# EAGLE library part ESP32_DEVKIT_V1 (library bzd)
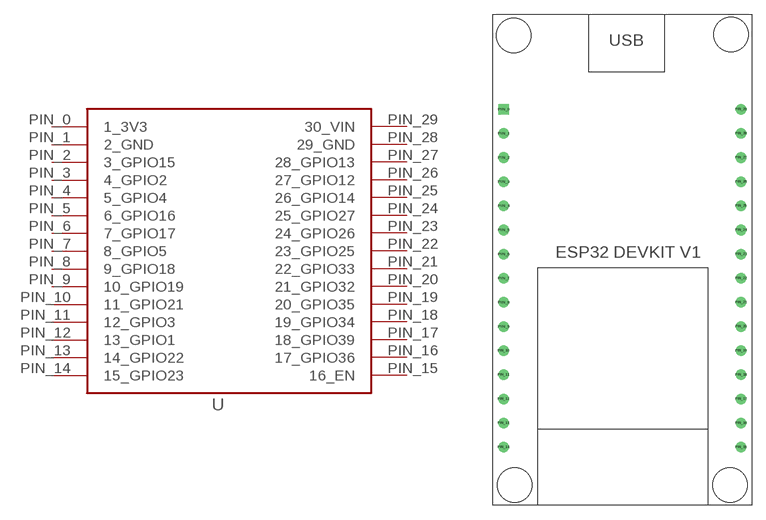
[diagram p2: symbol with the pads of ESP32_DEVKIT_V1; footprint ESP32_DEVKIT_V1]

Designator prefix -

## ESP32_DEVKIT_V1  [ESP32_DEVKIT_V1]
PIN_0  1_3V3
PIN_1  2_GND
PIN_2  3_GPIO15
PIN_3  4_GPIO2
PIN_4  5_GPIO4
PIN_5  6_GPIO16
PIN_6  7_GPIO17
PIN_7  8_GPIO5
PIN_8  9_GPIO18
PIN_9  10_GPIO19
PIN_10  11_GPIO21
PIN_11  12_GPIO3
PIN_12  13_GPIO1
PIN_13  14_GPIO22
PIN_14  15_GPIO23
PIN_15  16_EN
PIN_16  17_GPIO36
PIN_17  18_GPIO39
PIN_18  19_GPIO34
PIN_19  20_GPIO35
PIN_20  21_GPIO32
PIN_21  22_GPIO33
PIN_22  23_GPIO25
PIN_23  24_GPIO26
PIN_24  25_GPIO27
PIN_25  26_GPIO14
PIN_26  27_GPIO12
PIN_27  28_GPIO13
PIN_28  29_GND
PIN_29  30_VIN

## Footprint ESP32_DEVKIT_V1 (pad centres in mm)
drill 0.6 square: PIN_0 -12.954,17.526
drill 0.6: PIN_1 -12.954,14.986; PIN_2 -12.954,12.446; PIN_3 -12.954,9.906; PIN_4 -12.954,7.366; PIN_5 -12.954,4.826; PIN_6 -12.954,2.286; PIN_7 -12.954,-0.254; PIN_8 -12.954,-2.794; PIN_9 -12.954,-5.334; PIN_10 -12.954,-7.874; PIN_11 -12.954,-10.414; PIN_12 -12.954,-12.954; PIN_13 -12.954,-15.494; PIN_14 -12.954,-18.034; PIN_15 12.046,-18.034; PIN_16 12.046,-15.494; PIN_17 12.046,-12.954; PIN_18 12.046,-10.414; PIN_19 12.046,-7.874; PIN_20 12.046,-5.334; PIN_21 12.046,-2.794; PIN_22 12.046,-0.254; PIN_23 12.046,2.286; PIN_24 12.046,4.826; PIN_25 12.046,7.366; PIN_26 12.046,9.906; PIN_27 12.046,12.446; PIN_28 12.046,14.986; PIN_29 12.046,17.526